# Altium integrated library AltiumDesigner.IntLib: 2 symbols
Pins are listed as number, name and electrical type; pins without a type are passive.

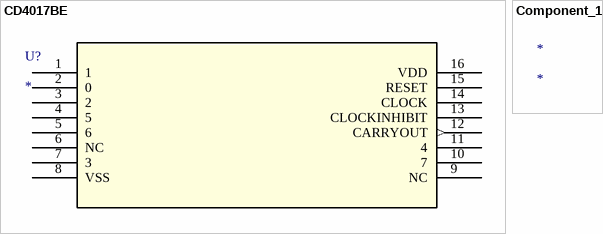
[diagram p0: symbols CD4017BE to Component_1]

## CD4017BE
designator U?
Imported; Manufacturer_Part_Number: CD4017BE; Vendor: Texas Instruments; Built_By: EMA_UL_Team; C: Copyright (C) 2015 Accelerated Designs. All rights reserved; RefDes: RefDes; Type: DEV; Value: Value
footprint N16 - duplicate
pins: 1, 2 0, 3 2, 4 5, 5 6, 6 NC, 7 3, 8 VSS (power), 9 NC, 10 7, 11 4, 12 CARRYOUT (out), 13 CLOCKINHIBIT, 14 CLOCK, 15 RESET, 16 VDD (power)

## Component_1
designator *